# Altium schematic symbol library SCH - POWER - SWITCHMODE - TI TPS63031DSK.SchLib: 1 symbol
Pins are listed as number, name and electrical type; pins without a type are passive.

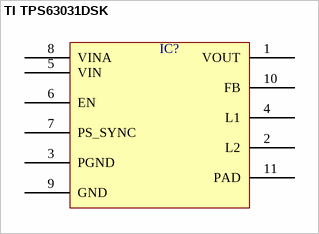
[diagram p0: symbol TI TPS63031DSK]

## TI TPS63031DSK
designator IC?  (value not drawn)
pins: 1 VOUT, 2 L2, 3 PGND, 4 L1, 5 VIN, 6 EN, 7 PS_SYNC, 8 VINA, 9 GND, 10 FB, 11 PAD